# Altium schematic symbol library s2b-ph.SchLib: 1 symbol
Pins are listed as number, name and electrical type; pins without a type are passive.

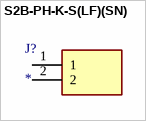
[diagram p0: symbol S2B-PH-K-S(LF)(SN)]

## S2B-PH-K-S(LF)(SN)
designator J?
Connector; Manufacturer_Name: JST (JAPAN SOLDERLESS TERMINALS); Manufacturer_Part_Number: S2B-PH-K-S(LF)(SN); Datasheet Link: http://uk.rs-online.com/web/p/products/8201494; Height: 6mm; RS Part Number: 8201494P; RS Price/Stock: http://uk.rs-online.com/web/p/products/8201494P
footprint SHDR2
pins: 1, 2